# EAGLE library part DSUB_9PIN_M (library Con_D-Sub)
D-Sub Connector
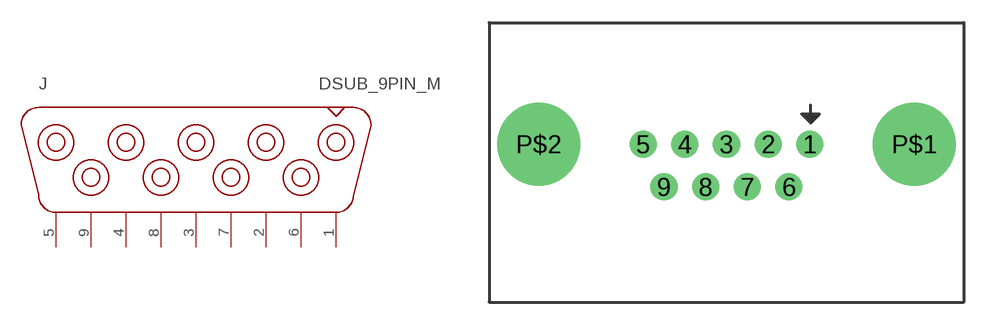
[diagram p0: symbol with the pads of 9PIN_RIGHT_M; footprint 9PIN_RIGHT_M]

Designator prefix J

## DSUB_9PIN_M  [9PIN_RIGHT_M]
1  1
2  2
3  3
4  4
5  5
6  6
7  7
8  8
9  9

## Footprint 9PIN_RIGHT_M (pad centres in mm)
drill 1.2: 1 5.54,0; 2 2.77,0; 3 0,0; 4 -2.77,0; 5 -5.54,0; 6 4.15,-2.84; 7 1.38,-2.84; 8 -1.39,-2.84; 9 -4.16,-2.84
drill 4.5: P$1 12.5,0; P$2 -12.5,0